# Altium schematic symbol library mcore-h616.SchLib: 1 symbol
Pins are listed as number, name and electrical type; pins without a type are passive.

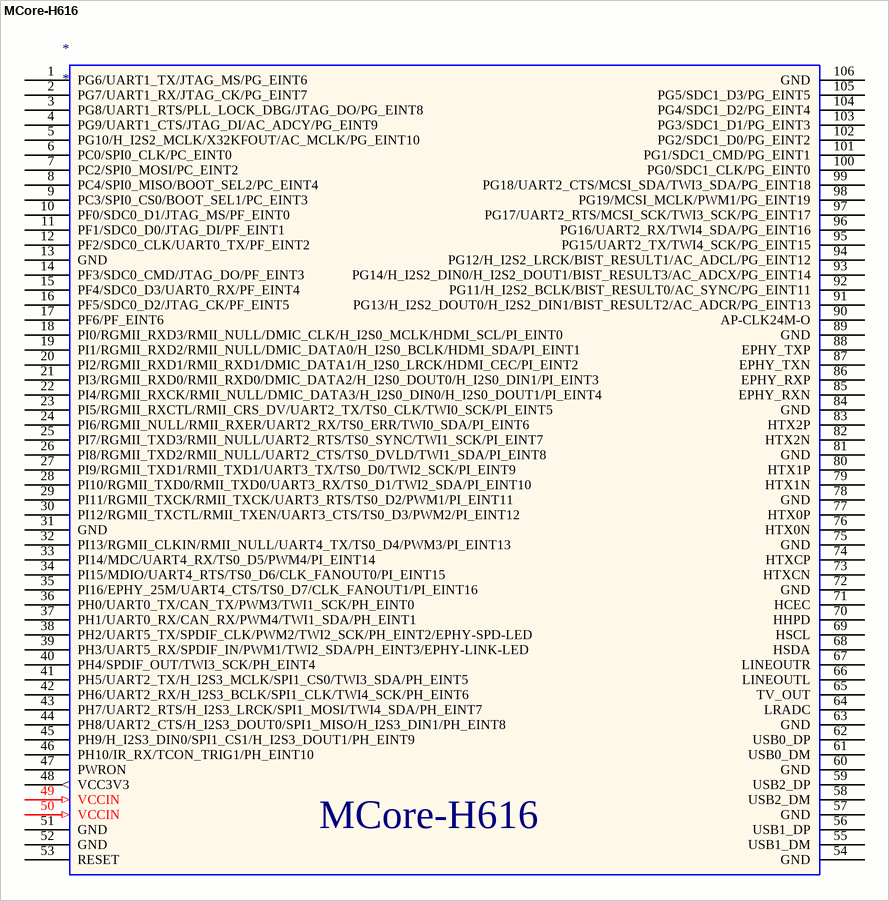
[diagram p0: symbol MCore-H616]

## MCore-H616
designator *
pins: 1 PG6/UART1_TX/JTAG_MS/PG_EINT6, 2 PG7/UART1_RX/JTAG_CK/PG_EINT7, 3 PG8/UART1_RTS/PLL_LOCK_DBG/JTAG_DO/PG_EINT8, 4 PG9/UART1_CTS/JTAG_DI/AC_ADCY/PG_EINT9, 5 PG10/H_I2S2_MCLK/X32KFOUT/AC_MCLK/PG_EINT10, 6 PC0/SPI0_CLK/PC_EINT0, 7 PC2/SPI0_MOSI/PC_EINT2, 8 PC4/SPI0_MISO/BOOT_SEL2/PC_EINT4, 9 PC3/SPI0_CS0/BOOT_SEL1/PC_EINT3, 10 PF0/SDC0_D1/JTAG_MS/PF_EINT0, 11 PF1/SDC0_D0/JTAG_DI/PF_EINT1, 12 PF2/SDC0_CLK/UART0_TX/PF_EINT2, 13 GND, 14 PF3/SDC0_CMD/JTAG_DO/PF_EINT3, 15 PF4/SDC0_D3/UART0_RX/PF_EINT4, 16 PF5/SDC0_D2/JTAG_CK/PF_EINT5, 17 PF6/PF_EINT6, 18 PI0/RGMII_RXD3/RMII_NULL/DMIC_CLK/H_I2S0_MCLK/HDMI_SCL/PI_EINT0, 19 PI1/RGMII_RXD2/RMII_NULL/DMIC_DATA0/H_I2S0_BCLK/HDMI_SDA/PI_EINT1, 20 PI2/RGMII_RXD1/RMII_RXD1/DMIC_DATA1/H_I2S0_LRCK/HDMI_CEC/PI_EINT2, 21 PI3/RGMII_RXD0/RMII_RXD0/DMIC_DATA2/H_I2S0_DOUT0/H_I2S0_DIN1/PI_EINT3, 22 PI4/RGMII_RXCK/RMII_NULL/DMIC_DATA3/H_I2S0_DIN0/H_I2S0_DOUT1/PI_EINT4, 23 PI5/RGMII_RXCTL/RMII_CRS_DV/UART2_TX/TS0_CLK/TWI0_SCK/PI_EINT5, 24 PI6/RGMII_NULL/RMII_RXER/UART2_RX/TS0_ERR/TWI0_SDA/PI_EINT6, 25 PI7/RGMII_TXD3/RMII_NULL/UART2_RTS/TS0_SYNC/TWI1_SCK/PI_EINT7, 26 PI8/RGMII_TXD2/RMII_NULL/UART2_CTS/TS0_DVLD/TWI1_SDA/PI_EINT8, 27 PI9/RGMII_TXD1/RMII_TXD1/UART3_TX/TS0_D0/TWI2_SCK/PI_EINT9, 28 PI10/RGMII_TXD0/RMII_TXD0/UART3_RX/TS0_D1/TWI2_SDA/PI_EINT10, 29 PI11/RGMII_TXCK/RMII_TXCK/UART3_RTS/TS0_D2/PWM1/PI_EINT11, 30 PI12/RGMII_TXCTL/RMII_TXEN/UART3_CTS/TS0_D3/PWM2/PI_EINT12, 31 GND, 32 PI13/RGMII_CLKIN/RMII_NULL/UART4_TX/TS0_D4/PWM3/PI_EINT13, 33 PI14/MDC/UART4_RX/TS0_D5/PWM4/PI_EINT14, 34 PI15/MDIO/UART4_RTS/TS0_D6/CLK_FANOUT0/PI_EINT15, 35 PI16/EPHY_25M/UART4_CTS/TS0_D7/CLK_FANOUT1/PI_EINT16, 36 PH0/UART0_TX/CAN_TX/PWM3/TWI1_SCK/PH_EINT0, 37 PH1/UART0_RX/CAN_RX/PWM4/TWI1_SDA/PH_EINT1, 38 PH2/UART5_TX/SPDIF_CLK/PWM2/TWI2_SCK/PH_EINT2/EPHY-SPD-LED, 39 PH3/UART5_RX/SPDIF_IN/PWM1/TWI2_SDA/PH_EINT3/EPHY-LINK-LED, 40 PH4/SPDIF_OUT/TWI3_SCK/PH_EINT4, 41 PH5/UART2_TX/H_I2S3_MCLK/SPI1_CS0/TWI3_SDA/PH_EINT5, 42 PH6/UART2_RX/H_I2S3_BCLK/SPI1_CLK/TWI4_SCK/PH_EINT6, 43 PH7/UART2_RTS/H_I2S3_LRCK/SPI1_MOSI/TWI4_SDA/PH_EINT7, 44 PH8/UART2_CTS/H_I2S3_DOUT0/SPI1_MISO/H_I2S3_DIN1/PH_EINT8, 45 PH9/H_I2S3_DIN0/SPI1_CS1/H_I2S3_DOUT1/PH_EINT9, 46 PH10/IR_RX/TCON_TRIG1/PH_EINT10, 47 PWRON, 48 VCC3V3 (out), 49 VCCIN (in), 50 VCCIN (in), 51 GND, 52 GND, 53 RESET, 54 GND, 55 USB1_DM, 56 USB1_DP, 57 GND, 58 USB2_DM, 59 USB2_DP, 60 GND, 61 USB0_DM, 62 USB0_DP, 63 GND, 64 LRADC, 65 TV_OUT, 66 LINEOUTL, 67 LINEOUTR, 68 HSDA, 69 HSCL, 70 HHPD, 71 HCEC, 72 GND, 73 HTXCN, 74 HTXCP, 75 GND, 76 HTX0N, 77 HTX0P, 78 GND, 79 HTX1N, 80 HTX1P, 81 GND, 82 HTX2N, 83 HTX2P, 84 GND, 85 EPHY_RXN, 86 EPHY_RXP, 87 EPHY_TXN, 88 EPHY_TXP, 89 GND, 90 AP-CLK24M-O, 91 PG13/H_I2S2_DOUT0/H_I2S2_DIN1/BIST_RESULT2/AC_ADCR/PG_EINT13, 92 PG11/H_I2S2_BCLK/BIST_RESULT0/AC_SYNC/PG_EINT11, 93 PG14/H_I2S2_DIN0/H_I2S2_DOUT1/BIST_RESULT3/AC_ADCX/PG_EINT14, 94 PG12/H_I2S2_LRCK/BIST_RESULT1/AC_ADCL/PG_EINT12, 95 PG15/UART2_TX/TWI4_SCK/PG_EINT15, 96 PG16/UART2_RX/TWI4_SDA/PG_EINT16, 97 PG17/UART2_RTS/MCSI_SCK/TWI3_SCK/PG_EINT17, 98 PG19/MCSI_MCLK/PWM1/PG_EINT19, 99 PG18/UART2_CTS/MCSI_SDA/TWI3_SDA/PG_EINT18, 100 PG0/SDC1_CLK/PG_EINT0, 101 PG1/SDC1_CMD/PG_EINT1, 102 PG2/SDC1_D0/PG_EINT2, 103 PG3/SDC1_D1/PG_EINT3, 104 PG4/SDC1_D2/PG_EINT4, 105 PG5/SDC1_D3/PG_EINT5, 106 GND